# EAGLE library part FT234XD (library Soil Power Sensor)
USB Bridge, USB to UART USB 2.0 UART Interface 12-DFN (3x3)
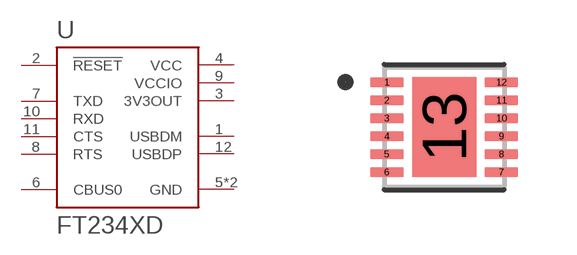
[diagram p4: symbol with the pads of SON45P300X300X80-13N; footprint SON45P300X300X80-13N]

Designator prefix U

## FT234XD (AUTHOR: SnapEDA; DATE_CREATED: 2023-04-05; DATE_MODIFIED: 2023-04-05; MFC: FTDI; MPN: FT234XD-R; QTY: 1; REF: https://ftdichip.com/products/ft234xd/)  [SON45P300X300X80-13N]
1  USBDM
2  !RESET  in
3  3V3OUT  out
4  VCC  pwr
5  GND  pwr
6  CBUS0
7  TXD  out
8  RTS  out
9  VCCIO  pwr
10  RXD  in
11  CTS  in
12  USBDP
13  GND  pwr

## Footprint SON45P300X300X80-13N (pad centres in mm)
smd 0.84 x 0.25: 1 -1.435,1.125; 2 -1.435,0.675; 3 -1.435,0.225; 4 -1.435,-0.225; 5 -1.435,-0.675; 6 -1.435,-1.125; 7 1.435,-1.125; 8 1.435,-0.675; 9 1.435,-0.225; 10 1.435,0.225; 11 1.435,0.675; 12 1.435,1.125
smd 1.6 x 2.5: 13 0,0